# Altium footprint library AMP Footprints.PcbLib: 903 footprints (part 54 of 58)
Each footprint in its own frame and in the unit in brackets; x right, y up, seen from the top. Pads: shape width x height; smd on the part's side, far side on the other; paste and mask are expansions set on the pad; w line width, h text height; cw(c..) or ccw(c..) is an arc to the next point about the centre after c.
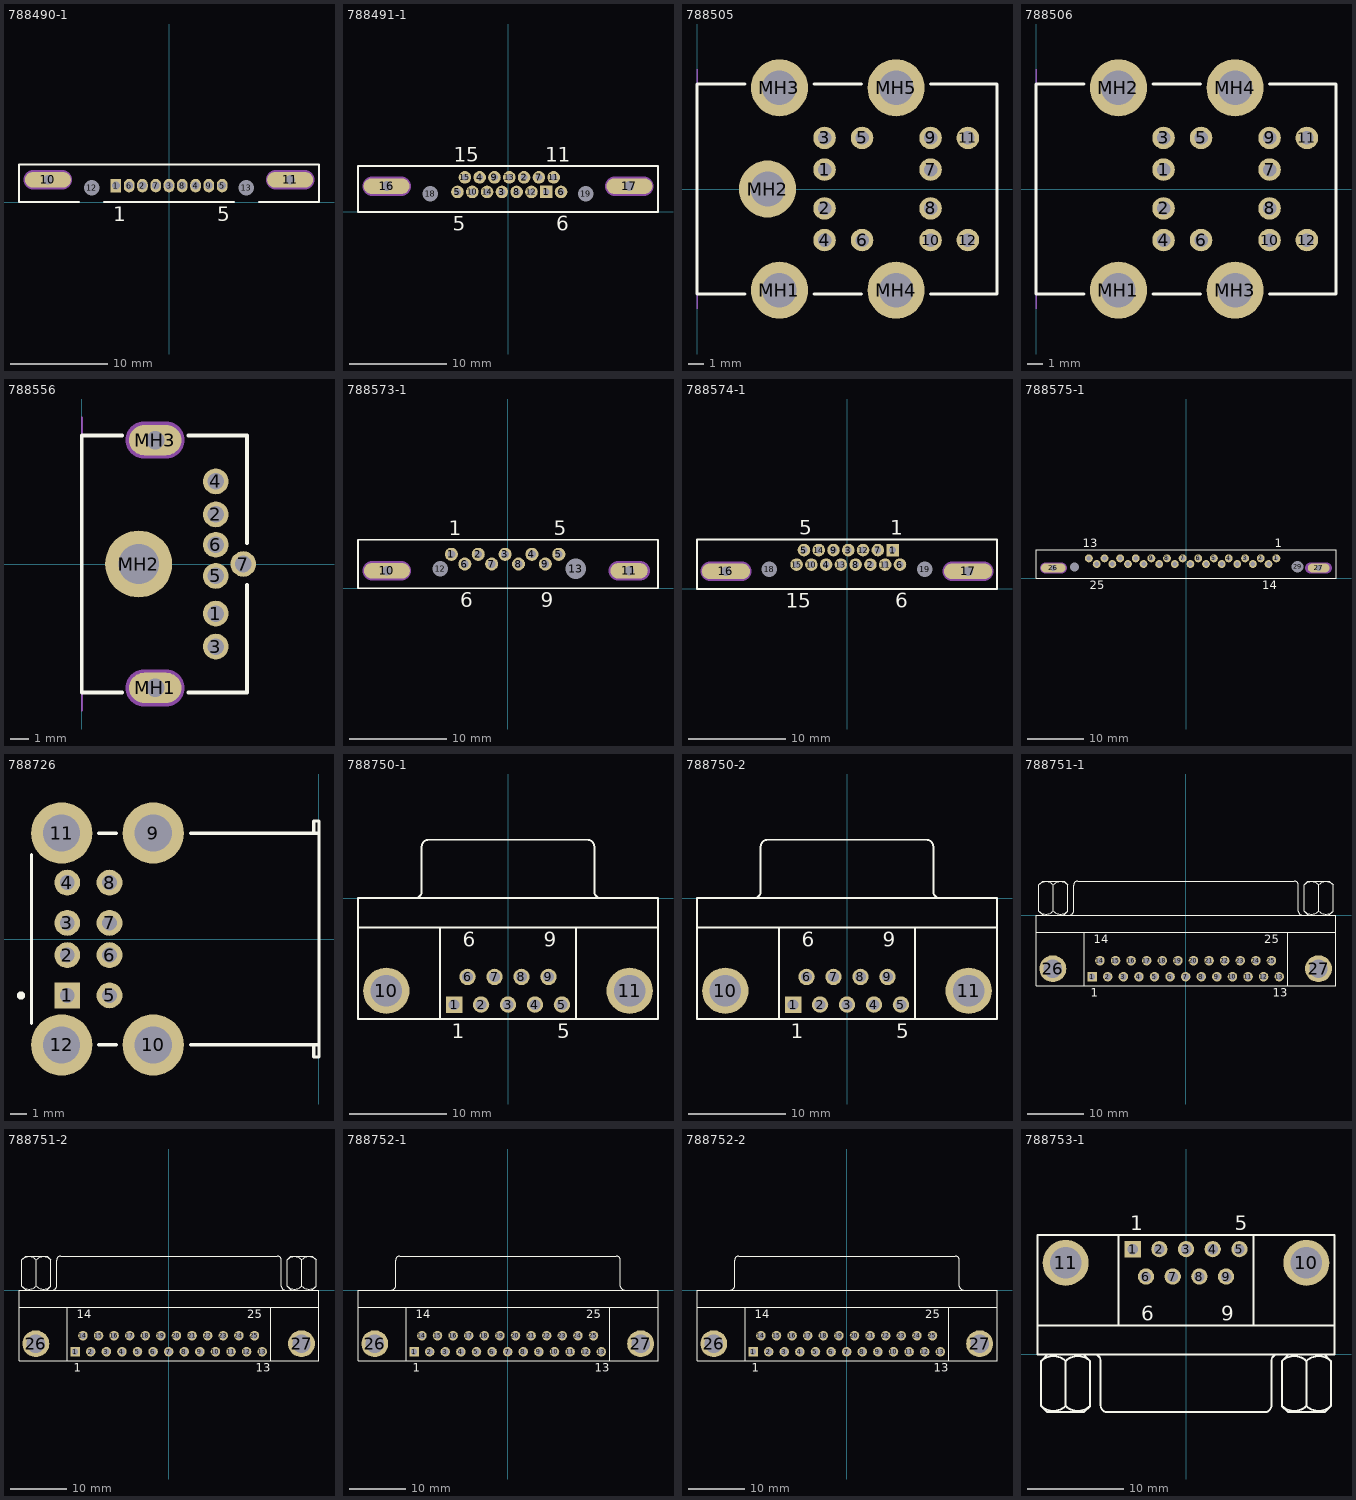
[diagram p53: the footprints below, top view; thin cyan lines are the x and y axes]

## 788490-1 [mm] "Connector; D Subminiature 050 Series; 9 Position; Right Angle"
height 12.57
pads (13):
  rect 1.1x1.4 hole 0.8: 1(-5.48,1.7)
  oval 1.1x1.4 hole 0.8: 2(-2.74,1.7) 3(0,1.7) 4(2.74,1.7) 5(5.48,1.7) 6(-4.11,1.7) 7(-1.37,1.7) 8(1.37,1.7) 9(4.11,1.7)
  oval 4.75x1.6 hole 1: 10(-12.495,2.3) 11(12.495,2.3)
  round 1.3 hole 1.6: 12(-7.986,1.5) 13(7.994,1.5)
Top Overlay:
  lines w0.2: -9.28,0 -15.475,0 -15.475,3.9 15.475,3.9 15.475,0 9.288,0 ; -6.692,0 6.7,0
  text "1" at -5.73,-1.975 h1.5
  text "5" at 4.98,-1.975 h1.5
Mechanical 1:
  lines w1.2: -13.995,2.3 -10.995,2.3 ; 10.995,2.3 13.995,2.3
  text "Alert PCB fab to slot details" at -15.491,-1.67 h0.3
  text "Slot 1.2x4.2mm, PTH" at -15.491,-2.17 h0.3
  text "Assign keep-out area to slot" at -15.491,-1.17 h0.3
  text "Mech 1 - Slot cut-out" at -15.491,-2.67 h0.3
  text "Mech 2 - Clearance, move to internal plane if present" at -15.491,-3.17 h0.3
Mechanical 2:
  lines w2.016: -13.995,2.3 -10.995,2.3 ; 10.995,2.3 13.995,2.3

## 788491-1 [mm] "Connector; D Subminiature 050 Series; 15 Position; Right Angle"
height 12.57
pads (19):
  rect 1.3x1.3 hole 0.7: 1(3.941,2.05)
  round 1.3 hole 0.7: 2(1.655,3.55) 3(-0.631,2.05) 4(-2.917,3.55) 5(-5.203,2.05) 6(5.465,2.05) 7(3.179,3.55) 8(0.893,2.05) 9(-1.393,3.55) 10(-3.679,2.05) 11(4.703,3.55) 12(2.417,2.05) 13(0.131,3.55) 14(-2.155,2.05) 15(-4.441,3.55)
  oval 4.75x1.6 hole 1: 16(-12.495,2.65) 17(12.495,2.65)
  round 1.3 hole 1.6: 18(-7.986,1.85) 19(7.994,1.85)
Top Overlay:
  lines w0.2: -15.45,0 15.45,0 15.45,4.7 -15.45,4.7 -15.45,0
  text "5" at -5.703,-1.975 h1.5
  text "6" at 4.965,-1.975 h1.5
  text "15" at -5.566,5.175 h1.5
  text "11" at 3.828,5.175 h1.5
Mechanical 1:
  lines w1.2: -13.995,2.65 -10.995,2.65 ; 10.995,2.65 13.995,2.65
  text "Alert PCB fab to slot details" at -15.491,-1.32 h0.3
  text "Slot 1.2x4.2mm, PTH" at -15.491,-1.82 h0.3
  text "Assign keep-out area to slot" at -15.491,-0.82 h0.3
  text "Mech 1 - Slot cut-out" at -15.491,-2.32 h0.3
  text "Mech 2 - Clearance, move to internal plane if present" at -15.491,-2.82 h0.3
Mechanical 2:
  lines w2.016: -13.995,2.65 -10.995,2.65 ; 10.995,2.65 13.995,2.65

## 788505 [mm] "Connector; Circular DIN, Thru-Hole; 6x6 Position; Right Angle; Pitch 2.11/2.59 mm; Body 14 x 20 x 28.5 mm (WxTxH), Shielded"
height 28.5
pads (17):
  round 1.5 hole 0.9: 1(8.5,1.295) 2(8.5,-1.295) 3(8.5,3.405) 4(8.5,-3.405) 5(11,3.405) 6(11,-3.405) 7(15.57,1.295) 8(15.57,-1.295) 9(15.57,3.405) 10(15.57,-3.405) 11(18.06,3.405) 12(18.06,-3.405)
  round 3.8 hole 2.3: MH1(5.5,-6.75) MH2(4.7,0) MH3(5.5,6.75) MH4(13.27,-6.75) MH5(13.27,6.75)
Top Overlay:
  lines w0.2: 3.21,-7 0,-7 0,7 3.21,7 ; 7.81,-6.99 10.98,-6.99 ; 7.81,7 10.98,7 ; 15.58,-7 20,-7 20,7 15.58,7
Mechanical 1:
  lines w0.1: 0,-8 0,8
  text "PCB Edge" at 0.6,-6.7 h0.25

## 788506 [mm] "Connector; Circular DIN, Thru-Hole; 6x6 Position; Right Angle; Pitch 2.11/2.59 mm; Body 14 x 20 x 28.5 mm (WxTxH), Shielded"
height 28.5
pads (16):
  round 1.5 hole 0.9: 1(8.5,1.295) 2(8.5,-1.295) 3(8.5,3.405) 4(8.5,-3.405) 5(11,3.405) 6(11,-3.405) 7(15.57,1.295) 8(15.57,-1.295) 9(15.57,3.405) 10(15.57,-3.405) 11(18.06,3.405) 12(18.06,-3.405)
  round 3.8 hole 2.3: MH1(5.5,-6.75) MH2(5.5,6.75) MH3(13.27,-6.75) MH4(13.27,6.75)
Top Overlay:
  lines w0.2: 3.21,-7 0,-7 0,7 3.21,7 ; 7.81,-6.99 10.98,-6.99 ; 7.81,7 10.98,7 ; 15.58,-7 20,-7 20,7 15.58,7
Mechanical 1:
  lines w0.1: 0,-8 0,8
  text "PCB Edge" at 0.6,-6.7 h0.25

## 788556 [mm] "Connector; Circular DIN, Thru-Hole; 7 Position; Right Angle; Body 14 x 9 x 13 mm (WxTxH), Shielded, Special PCB Retention"
height 13
pads (10):
  round 1.4 hole 0.9: 1(7.3,-2.7) 2(7.3,2.7) 3(7.3,-4.5) 4(7.3,4.5) 5(7.3,-0.65) 6(7.3,1.05) 7(8.8,0)
  oval 2.85x1.65 hole 1: MH1(4,-6.75) MH3(4,6.75)
  round 3.65 hole 2.2: MH2(3.1,0)
Top Overlay:
  lines w0.2: 2.2,-7 0,-7 0,7 2.2,7 ; 5.8,-7 9,-7 9,-1.14 ; 5.8,7 9,7 9,1.14
Mechanical 1:
  lines w0.1: 0,-8 0,8
  lines w1: 3.4,-6.75 4.6,-6.75 ; 3.4,6.75 4.6,6.75
  text "PCB Edge" at 0.5,-6.7 h0.25
  text "Mech 2 - Clearance, move to internal plane if present" at -0.076,8.342 h0.3
  text "Mech 1 - Slot cut-out" at -0.076,8.842 h0.3
  text "Assign keep-out area to slot" at -0.076,10.342 h0.3
  text "Slot 1.0x2.2mm, PTH" at -0.076,9.342 h0.3
  text "Alert PCB fab to slot details" at -0.076,9.842 h0.3
Mechanical 2:
  lines w2.016: 3.4,-6.75 4.6,-6.75 ; 3.4,6.75 4.6,6.75

## 788573-1 [mm] "Connector; D Subminiature 050 Series; 9 Position; Right Angle"
height 12.65
pads (13):
  round 1.35 hole 0.8: 1(-5.84,3.5) 2(-3.07,3.5) 3(-0.3,3.5) 4(2.47,3.5) 5(5.24,3.5) 6(-4.455,2.5) 7(-1.685,2.5) 8(1.085,2.5) 9(3.855,2.5)
  oval 4.75x1.6 hole 1: 10(-12.495,1.8)
  oval 3.85x1.6 hole 1: 11(12.495,1.8)
  round 1.3 hole 1.6: 12(-7,2)
  round 1.8 hole 2.1: 13(7,2)
Top Overlay:
  lines w0.2: -15.475,0 15.475,0 15.475,5 -15.475,5 -15.475,0
  text "9" at 3.385,-1.975 h1.5
  text "6" at -4.925,-1.975 h1.5
  text "1" at -6.09,5.475 h1.5
  text "5" at 4.74,5.475 h1.5
Mechanical 1:
  lines w1.2: -13.995,1.8 -10.995,1.8 ; 11.37,1.8 13.62,1.8
  text "Alert PCB fab to slot details" at -15.41,-1.5 h0.3
  text "Assign keep-out area to slot" at -15.41,-1 h0.3
  text "Mech 1 - Slot cut-out" at -15.41,-2 h0.3
  text "Mech 2 - Clearance, move to internal plane if present" at -15.41,-2.5 h0.3
Mechanical 2:
  lines w2.016: -13.995,1.8 -10.995,1.8 ; 11.37,1.8 13.62,1.8

## 788574-1 [mm] "Connector; D Subminiature 050 Series; 15 Position; Right Angle"
height 12.65
pads (19):
  rect 1.3x1.3 hole 0.7: 1(4.703,4)
  round 1.3 hole 0.7: 2(2.417,2.5) 3(0.131,4) 4(-2.155,2.5) 5(-4.441,4) 6(5.465,2.5) 7(3.179,4) 8(0.893,2.5) 9(-1.393,4) 10(-3.679,2.5) 11(3.941,2.5) 12(1.655,4) 13(-0.631,2.5) 14(-2.917,4) 15(-5.203,2.5)
  oval 5x1.6 hole 1: 16(-12.495,1.8) 17(12.495,1.8)
  round 1.3 hole 1.6: 18(-8,2) 19(8,2)
Top Overlay:
  lines w0.2: -15.48,0 15.48,0 15.48,5.1 -15.48,5.1 -15.48,0
  text "15" at -6.328,-1.975 h1.5
  text "6" at 4.965,-1.975 h1.5
  text "1" at 4.453,5.6 h1.5
  text "5" at -4.941,5.6 h1.5
Mechanical 1:
  lines w1.2: -14.12,1.8 -10.87,1.8 ; 10.87,1.8 14.12,1.8
  text "Alert PCB fab to slot details" at -15.505,-1.17 h0.3
  text "Slot 1.2x4.45mm, PTH" at -15.505,-1.67 h0.3
  text "Assign keep-out area to slot" at -15.505,-0.67 h0.3
  text "Mech 1 - Slot cut-out" at -15.505,-2.17 h0.3
  text "Mech 2 - Clearance, move to internal plane if present" at -15.505,-2.67 h0.3
Mechanical 2:
  lines w2.016: -14.12,1.8 -10.87,1.8 ; 10.87,1.8 14.12,1.8

## 788575-1 [mm] "Connector; D Subminiature 050 Series; 25 Position; Right Angle"
height 12.65
pads (29):
  round 1.4 hole 0.8: 1(16.02,3.5) 2(13.25,3.5) 3(10.48,3.5) 4(7.575,3.5) 5(4.94,3.5) 6(2.17,3.5) 7(-0.6,3.5) 8(-3.37,3.5) 9(-6.14,3.5) 10(-8.91,3.5) 11(-11.68,3.5) 12(-14.45,3.5) 13(-17.22,3.5) 14(14.635,2.5) 15(11.865,2.5) 16(9.095,2.5) 17(6.325,2.5) 18(3.555,2.5) 19(0.785,2.5) 20(-1.985,2.5) 21(-4.755,2.5) 22(-7.525,2.5) 23(-10.295,2.5) 24(-13.065,2.5) 25(-15.835,2.5)
  oval 4.35x1.6 hole 1: 26(-23.52,1.8)
  oval 3.85x1.6 hole 1: 27(23.52,1.8)
  round 1.3 hole 1.6: 28(-19.77,2)
  round 1.8 hole 2.1: 29(19.77,2)
Top Overlay:
  lines w0.2: -26.595,0 26.595,0 26.595,5 -26.595,5 -26.595,0
  text "14" at 13.51,-1.975 h1.5
  text "25" at -17.085,-1.975 h1.5
  text "1" at 15.77,5.475 h1.5
  text "13" at -18.345,5.475 h1.5
Mechanical 1:
  lines w1: -24.895,1.8 -22.145,1.8 ; 22.145,1.8 24.895,1.8
  text "Mech 2 - Clearance, move to internal plane if present" at -26.53,-2.5 h0.3
  text "Mech 1 - Slot cut-out" at -26.53,-2 h0.3
  text "Assign keep-out area to slot" at -26.53,-1 h0.3
  text "Alert PCB fab to slot details" at -26.53,-1.5 h0.3
Mechanical 2:
  lines w2.016: -24.895,1.8 -22.145,1.8 ; 22.145,1.8 24.895,1.8

## 788726 [mm] "Connector; USB1.1, Type A, Thru-Hole; 4x4 Position; Right Angle"
height 15.82
pads (12):
  rect 1.6x1.6 hole 0.92: 1(-15.61,-3.5)
  round 1.6 hole 0.92: 2(-15.61,-1) 3(-15.61,1) 4(-15.61,3.5) 5(-12.99,-3.5) 6(-12.99,-1) 7(-12.99,1) 8(-12.99,3.5)
  round 3.8 hole 2.3: 9(-10.28,6.57) 10(-10.28,-6.57) 11(-15.96,6.57) 12(-15.96,-6.57)
Top Overlay:
  circle w0.25: c-18.48,-3.5 r0.125
  lines w0.2: -17.83,-5.23 -17.83,5.23 ; -13.66,-6.565 -12.58,-6.565 ; -13.66,6.565 -12.58,6.565 ; -7.97,-6.565 0,-6.565 ; -7.97,6.565 0,6.565 ; -0.32,-6.565 -0.32,-7.315 0,-7.315 0,-6.565 ; -0.32,6.565 -0.32,7.315 0,7.315 0,6.565 ; 0,-6.565 0,6.565

## 788750-1 [mm] "Connector; D Subminiature AMPLIMITE 2000; 9 Position; Right Angle"
height 12.75
pads (11):
  rect 1.69x1.69 hole 1.09: 1(-5.54,-10.92)
  round 1.69 hole 1.09: 2(-2.77,-10.92) 3(0,-10.92) 4(2.77,-10.92) 5(5.54,-10.92) 6(-4.155,-8.08) 7(-1.385,-8.08) 8(1.385,-8.08) 9(4.155,-8.08)
  round 4.76 hole 3.26: 10(-12.495,-9.5) 11(12.495,-9.5)
Top Overlay:
  lines w0.2: -15.4,-3 15.4,-3 ; -9.56,0.005 ccw(c-9.56,0.7) -8.865,0.7 -8.865,5.3 ; -8.86,5.305 cw(c-8.165,5.305) -8.165,6 8.165,6 cw(c8.165,5.305) 8.86,5.305 ; -7,-12.4 -7,-3 ; 7,-12.4 7,-3 ; 8.865,5.3 8.865,0.7 ccw(c9.56,0.7) 9.56,0.005 ; -15.4,-12.4 -15.4,0 15.4,0 15.4,-12.4 -15.4,-12.4
  text "1" at -5.79,-14.375 h1.5
  text "5" at 5.04,-14.375 h1.5
  text "9" at 3.655,-4.975 h1.5
  text "6" at -4.655,-4.975 h1.5

## 788750-2 [mm] "Connector; D Subminiature AMPLIMITE 2000; 9 Position; Right Angle"
height 12.75
pads (11):
  rect 1.69x1.69 hole 1.09: 1(-5.54,-10.92)
  round 1.69 hole 1.09: 2(-2.77,-10.92) 3(0,-10.92) 4(2.77,-10.92) 5(5.54,-10.92) 6(-4.155,-8.08) 7(-1.385,-8.08) 8(1.385,-8.08) 9(4.155,-8.08)
  round 4.76 hole 3.26: 10(-12.495,-9.5) 11(12.495,-9.5)
Top Overlay:
  lines w0.2: -15.4,-3 15.4,-3 ; -9.56,0.005 ccw(c-9.56,0.7) -8.865,0.7 -8.865,5.3 ; -8.86,5.305 cw(c-8.165,5.305) -8.165,6 8.165,6 cw(c8.165,5.305) 8.86,5.305 ; -7,-12.4 -7,-3 ; 7,-12.4 7,-3 ; 8.865,5.3 8.865,0.7 ccw(c9.56,0.7) 9.56,0.005 ; -15.4,-12.4 -15.4,0 15.4,0 15.4,-12.4 -15.4,-12.4
  text "1" at -5.79,-14.375 h1.5
  text "5" at 5.04,-14.375 h1.5
  text "9" at 3.655,-4.975 h1.5
  text "6" at -4.655,-4.975 h1.5

## 788751-1 [mm] "Connector; D Subminiature AMPLIMITE 2000; 25 Position; Right Angle"
height 12.75
pads (27):
  rect 1.69x1.69 hole 1.09: 1(-16.566,-10.92)
  round 1.69 hole 1.09: 2(-13.805,-10.92) 3(-11.044,-10.92) 4(-8.283,-10.92) 5(-5.522,-10.92) 6(-2.761,-10.92) 7(0,-10.92) 8(2.761,-10.92) 9(5.522,-10.92) 10(8.283,-10.92) 11(11.044,-10.92) 12(13.805,-10.92) 13(16.566,-10.92) 14(-15.185,-8.08) 15(-12.424,-8.08) 16(-9.663,-8.08) 17(-6.902,-8.08) 18(-4.142,-8.08) 19(-1.381,-8.08) 20(1.381,-8.08) 21(4.142,-8.08) 22(6.903,-8.08) 23(9.664,-8.08) 24(12.425,-8.08) 25(15.186,-8.08)
  round 4.76 hole 3.26: 26(-23.526,-9.5) 27(23.526,-9.5)
Top Overlay:
  lines w0.2: -26.496,-3 26.604,-3 ; -25.984,5.35 -25.984,0.699 -25.349,0.064 ; -25.984,5.365 -25.349,6 -21.539,6 -20.904,5.365 ; -23.444,0.699 -23.444,5.35 ; -21.539,0.064 -20.904,0.699 -20.904,5.35 ; -20.904,4.086 -20.904,4.298 ; -20.541,0.005 ccw(c-20.541,0.7) -19.846,0.7 -19.846,5.3 ; -19.841,5.305 cw(c-19.146,5.305) -19.146,6 19.254,6 cw(c19.254,5.305) 19.949,5.305 ; -17.946,-12.5 -17.946,-3 ; 18.054,-12.5 18.054,-3 ; 19.954,5.3 19.954,0.7 ccw(c20.649,0.7) 20.649,0.005 ; 21.016,5.35 21.016,0.699 21.651,0.064 ; 21.016,5.365 21.651,6 25.461,6 26.096,5.365 ; 23.556,0.699 23.556,5.35 ; 25.461,0.064 26.096,0.699 26.096,5.35 ; 26.096,4.086 26.096,4.298 ; -26.496,-12.5 -26.496,0 26.604,0 26.604,-12.5 -26.496,-12.5
  lines w0.203: -25.986,0.697 ccw(c-24.714,1.969) -23.442,0.697 ; -25.984,5.35 cw(c-24.712,4.078) -23.439,5.35 ; -23.448,5.35 cw(c-22.176,4.078) -20.904,5.35 ; -23.446,0.697 ccw(c-22.174,1.969) -20.902,0.697 ; 21.014,0.697 ccw(c22.286,1.969) 23.558,0.697 ; 21.016,5.35 cw(c22.288,4.078) 23.561,5.35 ; 23.552,5.35 cw(c24.824,4.078) 26.096,5.35 ; 23.554,0.697 ccw(c24.826,1.969) 26.098,0.697
  text "25" at 13.935,-4.975 h1.5
  text "14" at -16.31,-4.975 h1.5
  text "13" at 15.441,-14.475 h1.5
  text "1" at -16.816,-14.475 h1.5

## 788751-2 [mm] "Connector; D Subminiature AMPLIMITE 2000; 25 Position; Right Angle"
height 12.75
pads (27):
  rect 1.69x1.69 hole 1.09: 1(-16.566,-10.92)
  round 1.69 hole 1.09: 2(-13.805,-10.92) 3(-11.044,-10.92) 4(-8.283,-10.92) 5(-5.522,-10.92) 6(-2.761,-10.92) 7(0,-10.92) 8(2.761,-10.92) 9(5.522,-10.92) 10(8.283,-10.92) 11(11.044,-10.92) 12(13.805,-10.92) 13(16.566,-10.92) 14(-15.185,-8.08) 15(-12.424,-8.08) 16(-9.663,-8.08) 17(-6.902,-8.08) 18(-4.142,-8.08) 19(-1.381,-8.08) 20(1.381,-8.08) 21(4.142,-8.08) 22(6.903,-8.08) 23(9.664,-8.08) 24(12.425,-8.08) 25(15.186,-8.08)
  round 4.76 hole 3.26: 26(-23.526,-9.5) 27(23.526,-9.5)
Top Overlay:
  lines w0.2: -26.496,-3 26.604,-3 ; -25.984,5.35 -25.984,0.699 -25.349,0.064 ; -25.984,5.365 -25.349,6 -21.539,6 -20.904,5.365 ; -23.444,0.699 -23.444,5.35 ; -21.539,0.064 -20.904,0.699 -20.904,5.35 ; -20.904,4.086 -20.904,4.298 ; -20.541,0.005 ccw(c-20.541,0.7) -19.846,0.7 -19.846,5.3 ; -19.841,5.305 cw(c-19.146,5.305) -19.146,6 19.254,6 cw(c19.254,5.305) 19.949,5.305 ; -17.946,-12.5 -17.946,-3 ; 18.054,-12.5 18.054,-3 ; 19.954,5.3 19.954,0.7 ccw(c20.649,0.7) 20.649,0.005 ; 21.016,5.35 21.016,0.699 21.651,0.064 ; 21.016,5.365 21.651,6 25.461,6 26.096,5.365 ; 23.556,0.699 23.556,5.35 ; 25.461,0.064 26.096,0.699 26.096,5.35 ; 26.096,4.086 26.096,4.298 ; -26.496,-12.5 -26.496,0 26.604,0 26.604,-12.5 -26.496,-12.5
  lines w0.203: -25.986,0.697 ccw(c-24.714,1.969) -23.442,0.697 ; -25.984,5.35 cw(c-24.712,4.078) -23.439,5.35 ; -23.448,5.35 cw(c-22.176,4.078) -20.904,5.35 ; -23.446,0.697 ccw(c-22.174,1.969) -20.902,0.697 ; 21.014,0.697 ccw(c22.286,1.969) 23.558,0.697 ; 21.016,5.35 cw(c22.288,4.078) 23.561,5.35 ; 23.552,5.35 cw(c24.824,4.078) 26.096,5.35 ; 23.554,0.697 ccw(c24.826,1.969) 26.098,0.697
  text "25" at 13.935,-4.975 h1.5
  text "14" at -16.31,-4.975 h1.5
  text "13" at 15.441,-14.475 h1.5
  text "1" at -16.816,-14.475 h1.5

## 788752-1 [mm] "Connector; D Subminiature AMPLIMITE 2000; 25 Position; Right Angle"
height 12.75
pads (27):
  rect 1.69x1.69 hole 1.09: 1(-16.566,-10.92)
  round 1.69 hole 1.09: 2(-13.805,-10.92) 3(-11.044,-10.92) 4(-8.283,-10.92) 5(-5.522,-10.92) 6(-2.761,-10.92) 7(0,-10.92) 8(2.761,-10.92) 9(5.522,-10.92) 10(8.283,-10.92) 11(11.044,-10.92) 12(13.805,-10.92) 13(16.566,-10.92) 14(-15.185,-8.08) 15(-12.424,-8.08) 16(-9.663,-8.08) 17(-6.902,-8.08) 18(-4.141,-8.08) 19(-1.38,-8.08) 20(1.381,-8.08) 21(4.142,-8.08) 22(6.903,-8.08) 23(9.664,-8.08) 24(12.425,-8.08) 25(15.186,-8.08)
  round 4.76 hole 3.26: 26(-23.526,-9.5) 27(23.526,-9.5)
Top Overlay:
  lines w0.2: -26.496,-3 26.604,-3 ; -20.541,0.005 ccw(c-20.541,0.7) -19.846,0.7 -19.846,5.3 ; -19.841,5.305 cw(c-19.146,5.305) -19.146,6 19.254,6 cw(c19.254,5.305) 19.949,5.305 ; -17.946,-12.5 -17.946,-3 ; 18.054,-12.5 18.054,-3 ; 19.954,5.3 19.954,0.7 ccw(c20.649,0.7) 20.649,0.005 ; -26.496,-12.5 -26.496,0 26.604,0 26.604,-12.5 -26.496,-12.5
  text "25" at 13.936,-4.975 h1.5
  text "14" at -16.31,-4.975 h1.5
  text "13" at 15.441,-14.475 h1.5
  text "1" at -16.816,-14.475 h1.5

## 788752-2 [mm] "Connector; D Subminiature AMPLIMITE 2000; 25 Position; Right Angle"
height 12.75
pads (27):
  rect 1.69x1.69 hole 1.09: 1(-16.566,-10.92)
  round 1.69 hole 1.09: 2(-13.805,-10.92) 3(-11.044,-10.92) 4(-8.283,-10.92) 5(-5.522,-10.92) 6(-2.761,-10.92) 7(0,-10.92) 8(2.761,-10.92) 9(5.522,-10.92) 10(8.283,-10.92) 11(11.044,-10.92) 12(13.805,-10.92) 13(16.566,-10.92) 14(-15.185,-8.08) 15(-12.424,-8.08) 16(-9.663,-8.08) 17(-6.902,-8.08) 18(-4.141,-8.08) 19(-1.38,-8.08) 20(1.381,-8.08) 21(4.142,-8.08) 22(6.903,-8.08) 23(9.664,-8.08) 24(12.425,-8.08) 25(15.186,-8.08)
  round 4.76 hole 3.26: 26(-23.526,-9.5) 27(23.526,-9.5)
Top Overlay:
  lines w0.2: -26.496,-3 26.604,-3 ; -20.541,0.005 ccw(c-20.541,0.7) -19.846,0.7 -19.846,5.3 ; -19.841,5.305 cw(c-19.146,5.305) -19.146,6 19.254,6 cw(c19.254,5.305) 19.949,5.305 ; -17.946,-12.5 -17.946,-3 ; 18.054,-12.5 18.054,-3 ; 19.954,5.3 19.954,0.7 ccw(c20.649,0.7) 20.649,0.005 ; -26.496,-12.5 -26.496,0 26.604,0 26.604,-12.5 -26.496,-12.5
  text "25" at 13.936,-4.975 h1.5
  text "14" at -16.31,-4.975 h1.5
  text "13" at 15.441,-14.475 h1.5
  text "1" at -16.816,-14.475 h1.5

## 788753-1 [mm] "Connector; D Subminiature AMPLIMITE 2000; 9 Position; Right Angle"
height 12.75
pads (11):
  rect 1.69x1.69 hole 1.09: 1(-5.54,10.92)
  round 1.69 hole 1.09: 2(-2.77,10.92) 3(0,10.92) 4(2.77,10.92) 5(5.54,10.92) 6(-4.155,8.08) 7(-1.385,8.08) 8(1.385,8.08) 9(4.155,8.08)
  round 4.76 hole 3.26: 10(12.495,9.5) 11(-12.495,9.5)
Top Overlay:
  lines w0.2: -15.4,3 15.4,3 ; -15.042,-5.365 -14.407,-6 -10.597,-6 -9.962,-5.365 ; -15.042,-5.35 -15.042,-0.699 -14.407,-0.064 ; -15.042,-4.298 -15.042,-4.086 ; -12.502,-5.35 -12.502,-0.699 ; -10.597,-0.064 -9.962,-0.699 -9.962,-5.35 ; -9.56,-0.005 cw(c-9.56,-0.7) -8.865,-0.7 -8.865,-5.3 ; -8.86,-5.305 ccw(c-8.165,-5.305) -8.165,-6 8.165,-6 ccw(c8.165,-5.305) 8.86,-5.305 ; -7,3 -7,12.4 ; 7,3 7,12.4 ; 8.865,-5.3 8.865,-0.7 cw(c9.56,-0.7) 9.56,-0.005 ; 9.958,-5.365 10.593,-6 14.403,-6 15.038,-5.365 ; 9.958,-5.35 9.958,-0.699 10.593,-0.064 ; 9.958,-4.298 9.958,-4.086 ; 12.498,-5.35 12.498,-0.699 ; 14.403,-0.064 15.038,-0.699 15.038,-5.35 ; -15.4,0 15.4,0 15.4,12.4 -15.4,12.4 -15.4,0
  lines w0.203: -15.044,-0.697 cw(c-13.772,-1.969) -12.5,-0.697 ; -15.042,-5.35 ccw(c-13.77,-4.078) -12.498,-5.35 ; -12.507,-5.35 ccw(c-11.234,-4.078) -9.962,-5.35 ; -12.504,-0.697 cw(c-11.232,-1.969) -9.96,-0.697 ; 9.956,-0.697 cw(c11.228,-1.969) 12.5,-0.697 ; 9.958,-5.35 ccw(c11.23,-4.078) 12.502,-5.35 ; 12.493,-5.35 ccw(c13.766,-4.078) 15.038,-5.35 ; 12.496,-0.697 cw(c13.768,-1.969) 15.04,-0.697
  text "9" at 3.655,3.48 h1.5
  text "5" at 5.04,12.88 h1.5
  text "1" at -5.79,12.88 h1.5
  text "6" at -4.655,3.48 h1.5